# EAGLE library part 3X4PHONE-STYLEMATRIXKEYPAD (library LinnesLab-Comms)
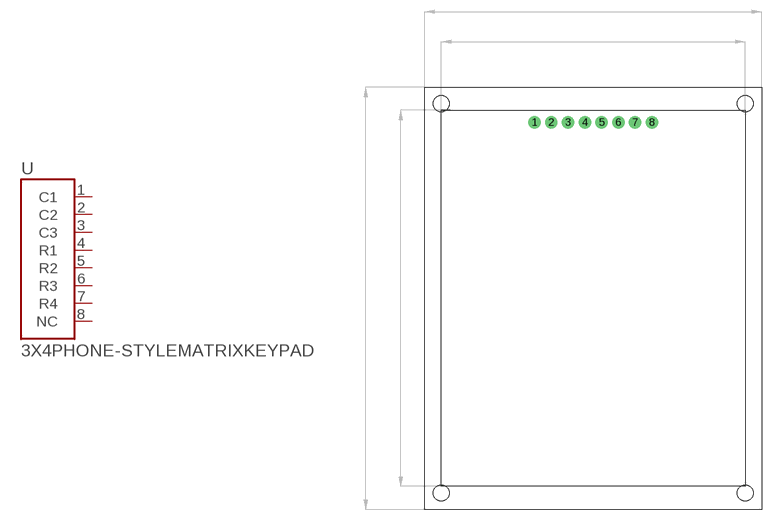
[diagram p1: symbol with the pads of 3X4PHONE-STYLEMATRIXKEYPAD; footprint 3X4PHONE-STYLEMATRIXKEYPAD]

Designator prefix U

## 3X4PHONE-STYLEMATRIXKEYPAD  [3X4PHONE-STYLEMATRIXKEYPAD]
1  C1
2  C2
3  C3
4  R1
5  R2
6  R3
7  R4
8  NC

## Footprint 3X4PHONE-STYLEMATRIXKEYPAD (pad centres in mm)
drill 1.016 pad 1.88: 1 -8.89,26.67; 2 -6.35,26.67; 3 -3.81,26.67; 4 -1.27,26.67; 5 1.27,26.67; 6 3.81,26.67; 7 6.35,26.67; 8 8.89,26.67
hole 2.4 at -23,29.5
hole 2.4 at 23,29.5
hole 2.4 at 23,-29.5
hole 2.4 at -23,-29.5